# Altium schematic symbol library SCH - CONNECTORS - 14 PIN.SCHLIB: 1 symbol
Pins are listed as number, name and electrical type; pins without a type are passive.

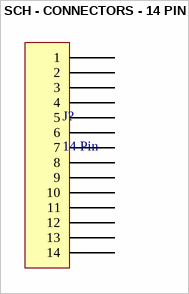
[diagram p0: symbol SCH - CONNECTORS - 14 PIN]

## SCH - CONNECTORS - 14 PIN
designator J?, comment 14 Pin
pins: 1, 2, 3, 4, 5, 6, 7, 8, 9, 10, 11, 12, 13, 14